# Altium footprint library ABM8G-25P000MHZ-4Y-T3.PcbLib: 1 footprints
Each footprint in its own frame and in the unit in brackets; x right, y up, seen from the top. Pads: shape width x height; smd on the part's side, far side on the other; paste and mask are expansions set on the pad; w line width, h text height; cw(c..) or ccw(c..) is an arc to the next point about the centre after c.
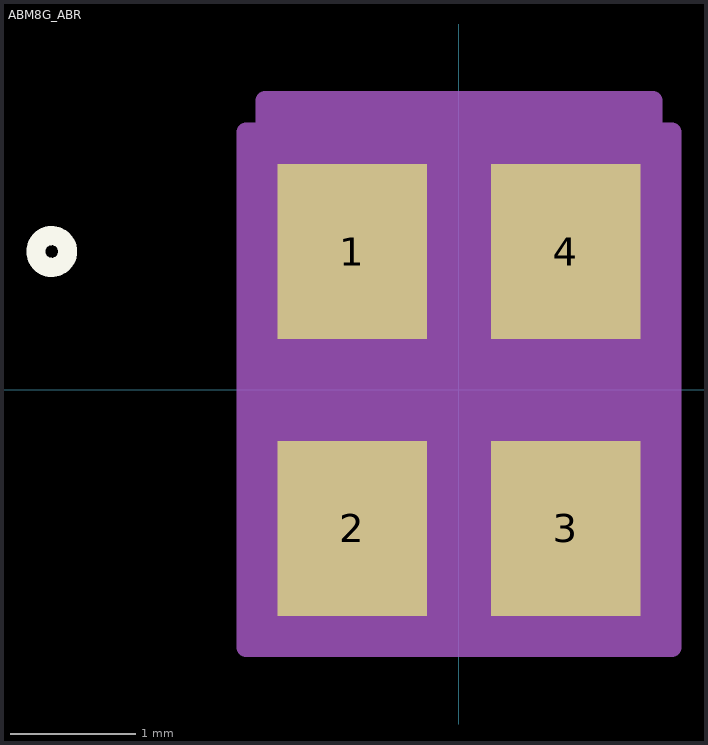
[diagram p0: the footprint, top view; thin cyan lines are the x and y axes]

## ABM8G_ABR [mil]
pads (4):
  rect 47x55 smd paste+0 mask+0: 1(-33.5,43.5) 2(-33.5,-43.5) 3(33.5,-43.5) 4(33.5,43.5)
Top Overlay:
  circle w6: c-128,43.5 r5
Mechanical 13:
  circle w0: c-10,43.5 r3
  lines w0: -12,65 ccw(c0,65) 12,65
  lines w1: -51,-65 51,-65 51,65 -51,65 -51,-65
Mechanical 15:
  region: -61,-81 -67,-81 -67,81 -61,81 -61,91 61,91 61,81 67,81 67,-81 61,-81
  lines w6: -61,-81 -67,-81 -67,81 -61,81 -61,91 61,91 61,81 67,81 67,-81 61,-81 ; -61,-81 -61,-81 ; -61,-81 61,-81 ; 61,-81 61,-81
3D body "ABM8G_ABR.step": height 39.09, standoff 0, extent -50.98,-65 50.98,65